# EAGLE library part CONN_HDMI (library vikc-connector)
Conn HDMI RCP 19 POS 0.5mm Solder RA SMD 19 Terminal 1 Port Box/Tray
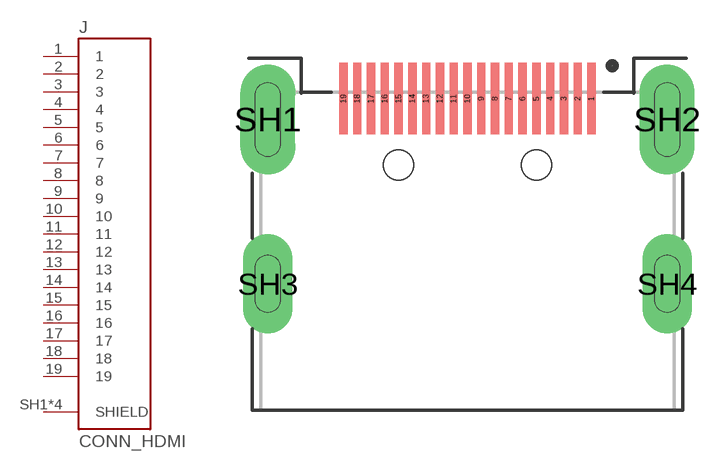
[diagram p5: symbol with the pads of HDMICONN; footprint HDMICONN]

Designator prefix J

## CONN_HDMI (AVAILABILITY: Unavailable; DESCRIPTION: Conn HDMI RCP 19 POS 0.5mm Solder RA SMD 19 Terminal 1 Port Box/Tray; MF: TE Connectivity / AMP; MP: 1-1747981-4; PACKAGE: None; PRICE: None)  [HDMICONN]
1  1  pas
2  2  pas
3  3  pas
4  4  pas
5  5  pas
6  6  pas
7  7  pas
8  8  pas
9  9  pas
10  10  pas
11  11  pas
12  12  pas
13  13  pas
14  14  pas
15  15  pas
16  16  pas
17  17  pas
18  18  pas
19  19  pas
SH1  SHIELD  pas
SH2  SHIELD  pas
SH3  SHIELD  pas
SH4  SHIELD  pas

## Footprint HDMICONN (pad centres in mm)
smd 0.3 x 2.6: 1 4.5,0.76; 2 4,0.76; 3 3.5,0.76; 4 3,0.76; 5 2.5,0.76; 6 2,0.76; 7 1.5,0.76; 8 1,0.76; 9 0.5,0.76; 10 0,0.76; 11 -0.5,0.76; 12 -1,0.76; 13 -1.5,0.76; 14 -2,0.76; 15 -2.5,0.76; 16 -3,0.76; 17 -3.5,0.76; 18 -4,0.76; 19 -4.5,0.76
drill 0.9 pad 2 long: SH1 -7.25,0; SH2 7.25,0
drill 0.9 pad 1.8 long: SH3 -7.25,-5.96; SH4 7.25,-5.96
hole 1.1 at -2.5,-1.65
hole 1.1 at 2.5,-1.65